# Altium schematic symbol library MT25QL256ABA1EW9-0SIT.SchLib: 1 symbol
Pins are listed as number, name and electrical type; pins without a type are passive.

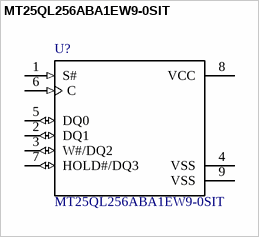
[diagram p0: symbol MT25QL256ABA1EW9-0SIT]

## MT25QL256ABA1EW9-0SIT
designator U?
/ NOR Flash Serial-SPI 3.3V 256Mbit 256M x 1bit 8-Pin WPDFN /; MF: Micron Technology; SnapEDA_Link: https://www.snapeda.com/parts/MT25QL256ABA1EW9-0SIT/Micron%20Technology%20Inc./view-part/?ref=snap; Availability: Unavailable; Price: None; MP: MT25QL256ABA1EW9-0SIT; Package: WDFN-8 Micron Technology; Value: *
footprint *SON127P600X800X80-9N
pins: 1 S# (in), 2 DQ1 (io), 3 W#/DQ2 (io), 4 VSS (power), 5 DQ0 (io), 6 C (in), 7 HOLD#/DQ3 (io), 8 VCC (power), 9 VSS (power)